# Altium schematic symbol library Battery_Management.SchLib: 8 symbols
Pins are listed as number, name and electrical type; pins without a type are passive.

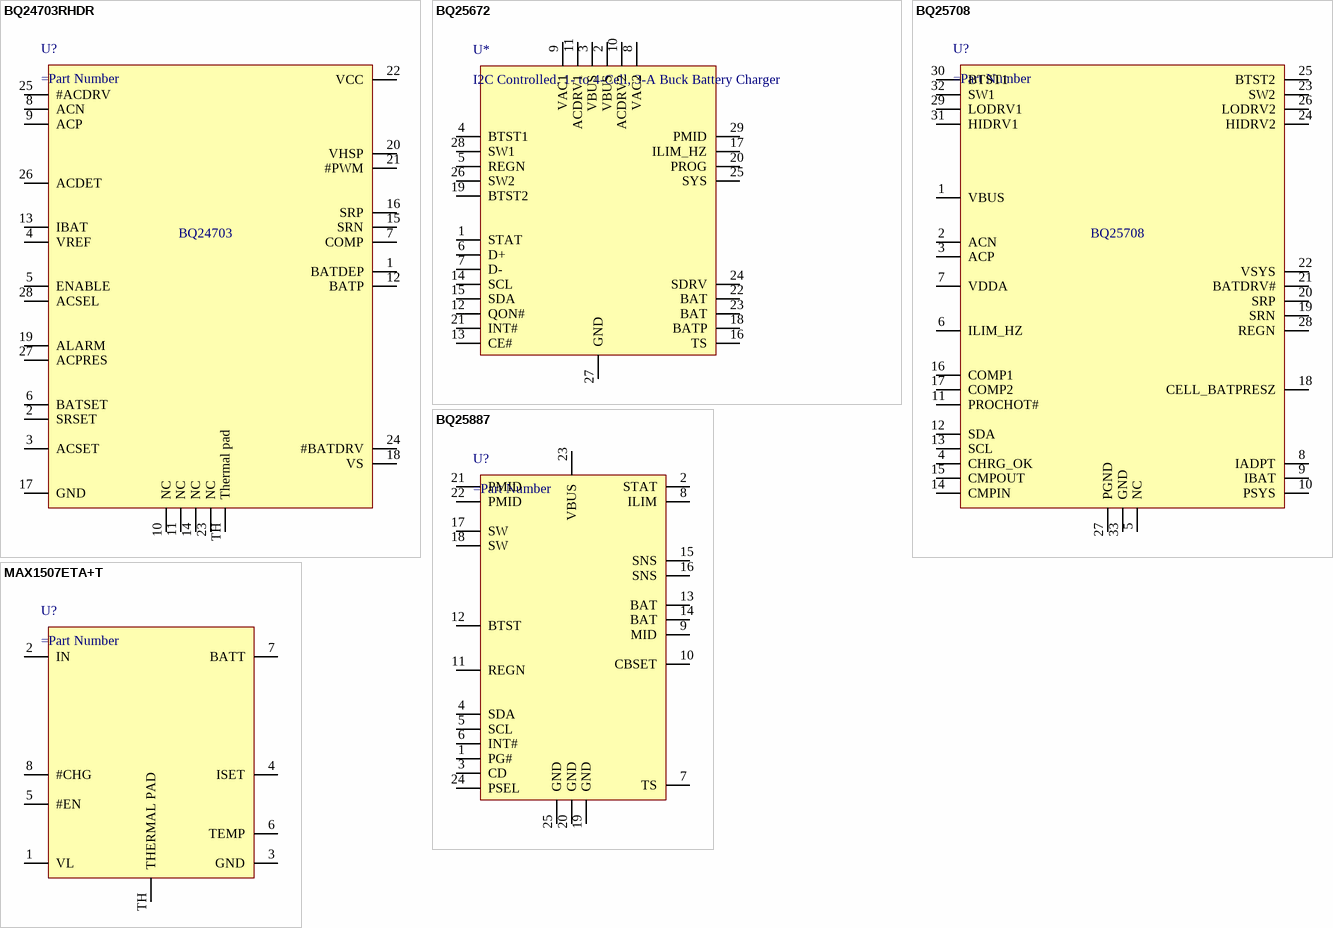
[diagram p0: symbols BQ24703RHDR to MAX1507ETA+T]

## BQ24703RHDR
designator U?
pins: 1 BATDEP, 2 SRSET, 3 ACSET, 4 VREF, 5 ENABLE, 6 BATSET, 7 COMP, 8 ACN, 9 ACP, 10 NC, 11 NC, 12 BATP, 13 IBAT, 14 NC, 15 SRN, 16 SRP, 17 GND, 18 VS, 19 ALARM, 20 VHSP, 21 #PWM, 22 VCC, 23 NC, 24 #BATDRV, 25 #ACDRV, 26 ACDET, 27 ACPRES, 28 ACSEL, TH Thermal pad
text: BQ24703

## BQ25672
designator U*, comment I2C Controlled, 1- to 4-Cell, 3-A Buck Battery Charger
pins: 1 STAT, 2 VBUS, 3 VBUS, 4 BTST1, 5 REGN, 6 D+, 7 D-, 8 VAC2, 9 VAC1, 10 ACDRV2, 11 ACDRV1, 12 QON#, 13 CE#, 14 SCL, 15 SDA, 16 TS, 17 ILIM_HZ, 18 BATP, 19 BTST2, 20 PROG, 21 INT#, 22 BAT, 23 BAT, 24 SDRV, 25 SYS, 26 SW2, 27 GND, 28 SW1, 29 PMID

## BQ25708
designator U?
pins: 1 VBUS, 2 ACN, 3 ACP, 4 CHRG_OK, 5 NC, 6 ILIM_HZ, 7 VDDA, 8 IADPT, 9 IBAT, 10 PSYS, 11 PROCHOT#, 12 SDA, 13 SCL, 14 CMPIN, 15 CMPOUT, 16 COMP1, 17 COMP2, 18 CELL_BATPRESZ, 19 SRN, 20 SRP, 21 BATDRV#, 22 VSYS, 23 SW2, 24 HIDRV2, 25 BTST2, 26 LODRV2, 27 PGND, 28 REGN, 29 LODRV1, 30 BTST1, 31 HIDRV1, 32 SW1, 33 GND

## BQ25887
designator U?
pins: 1 PG#, 2 STAT, 3 CD, 4 SDA, 5 SCL, 6 INT#, 7 TS, 8 ILIM, 9 MID, 10 CBSET, 11 REGN, 12 BTST, 13 BAT, 14 BAT, 15 SNS, 16 SNS, 17 SW, 18 SW, 19 GND, 20 GND, 21 PMID, 22 PMID, 23 VBUS, 24 PSEL, 25 GND

## MAX1507ETA+T
designator U?
pins: 1 VL, 2 IN, 3 GND, 4 ISET, 5 #EN, 6 TEMP, 7 BATT, 8 #CHG, TH THERMAL PAD

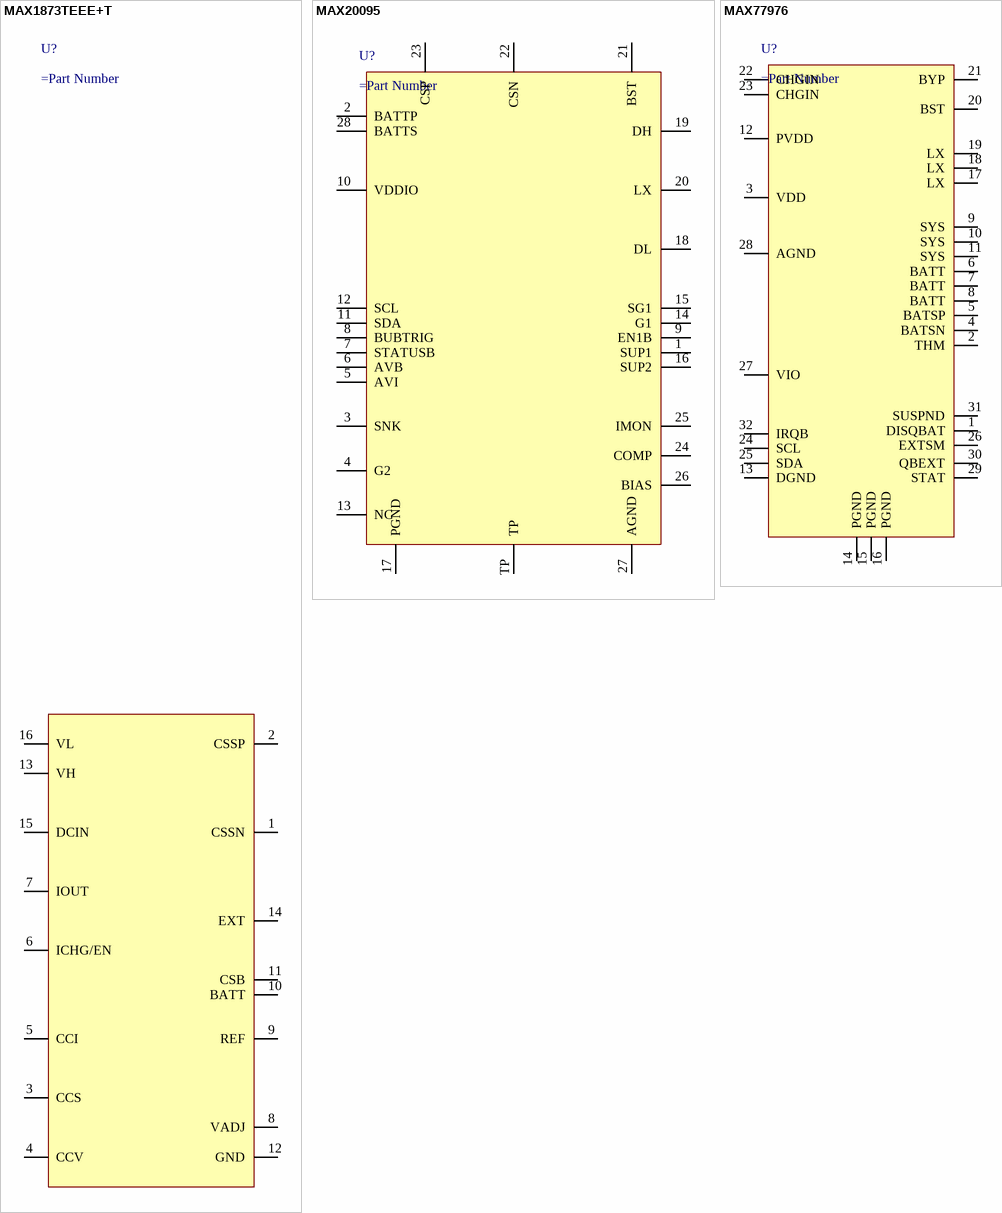
[diagram p1: symbols MAX1873TEEE+T to MAX77976]

## MAX1873TEEE+T
designator U?
pins: 1 CSSN, 2 CSSP, 3 CCS, 4 CCV, 5 CCI, 6 ICHG/EN, 7 IOUT, 8 VADJ, 9 REF, 10 BATT, 11 CSB, 12 GND, 13 VH, 14 EXT, 15 DCIN, 16 VL

## MAX20095
designator U?
pins: 1 SUP1, 2 BATTP, 3 SNK, 4 G2, 5 AVI, 6 AVB, 7 STATUSB, 8 BUBTRIG, 9 EN1B, 10 VDDIO, 11 SDA, 12 SCL, 13 NC, 14 G1, 15 SG1, 16 SUP2, 17 PGND, 18 DL, 19 DH, 20 LX, 21 BST, 22 CSN, 23 CSP, 24 COMP, 25 IMON, 26 BIAS, 27 AGND, 28 BATTS, TP

## MAX77976
designator U?
pins: 1 DISQBAT, 2 THM, 3 VDD, 4 BATSN, 5 BATSP, 6 BATT, 7 BATT, 8 BATT, 9 SYS, 10 SYS, 11 SYS, 12 PVDD, 13 DGND, 14 PGND, 15 PGND, 16 PGND, 17 LX, 18 LX, 19 LX, 20 BST, 21 BYP, 22 CHGIN, 23 CHGIN, 24 SCL, 25 SDA, 26 EXTSM, 27 VIO, 28 AGND, 29 STAT, 30 QBEXT, 31 SUSPND, 32 IRQB